# EAGLE library part FX2-68 (library monome)
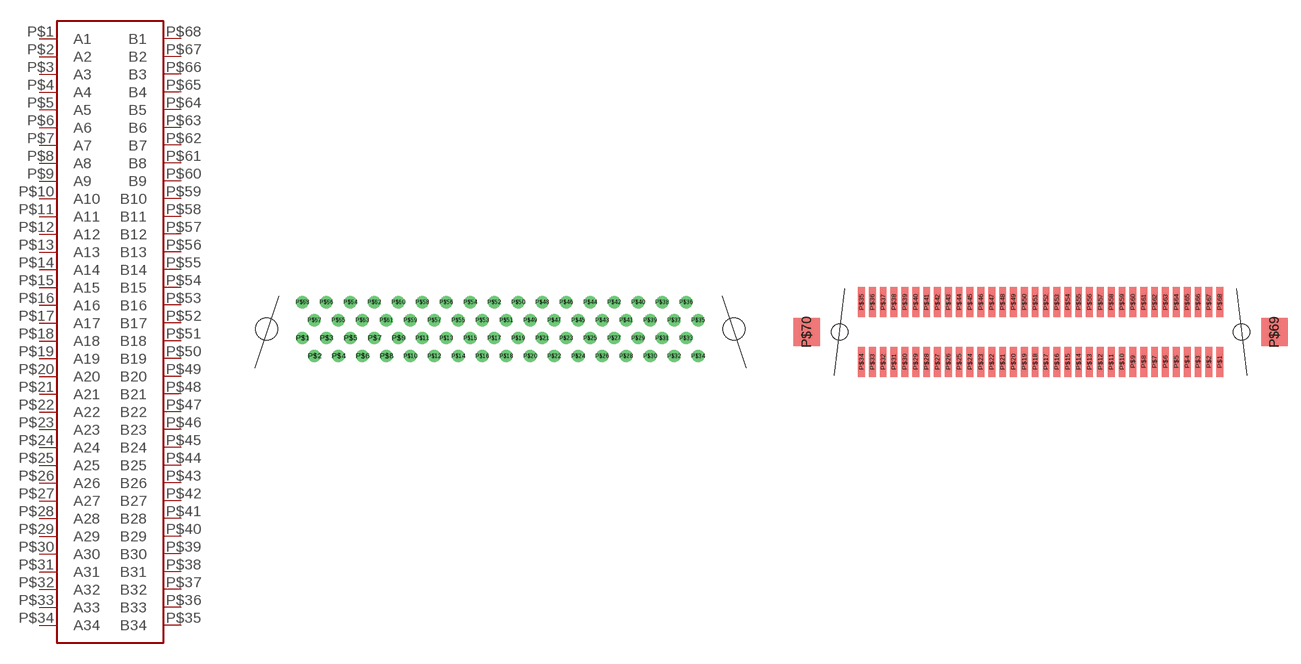
[diagram p10: symbol with the pads of FX2-68-THRU; footprints FX2-68-THRU, FX2-68-SMD]

Designator prefix -

## FX2-68THRU  [FX2-68-THRU]
P$1  A1
P$2  A2
P$3  A3
P$4  A4
P$5  A5
P$6  A6
P$7  A7
P$8  A8
P$9  A9
P$10  A10
P$11  A11
P$12  A12
P$13  A13
P$14  A14
P$15  A15
P$16  A16
P$17  A17
P$18  A18
P$19  A19
P$20  A20
P$21  A21
P$22  A22
P$23  A23
P$24  A24
P$25  A25
P$26  A26
P$27  A27
P$28  A28
P$29  A29
P$30  A30
P$31  A31
P$32  A32
P$33  A33
P$34  A34
P$35  B34
P$36  B33
P$37  B32
P$38  B31
P$39  B30
P$40  B29
P$41  B28
P$42  B27
P$43  B26
P$44  B25
P$45  B24
P$46  B23
P$47  B22
P$48  B21
P$49  B20
P$50  B19
P$51  B18
P$52  B17
P$53  B16
P$54  B15
P$55  B14
P$56  B13
P$57  B12
P$58  B11
P$59  B10
P$60  B9
P$61  B8
P$62  B7
P$63  B6
P$64  B5
P$65  B4
P$66  B3
P$67  B2
P$68  B1

## FX2-68SMD  [FX2-68-SMD]
Pads as for FX2-68-THRU

## Footprint FX2-68-THRU (pad centres in mm)
drill 0.8 round: P$1 0,1.905; P$2 1.27,0; P$3 2.54,1.905; P$4 3.81,0; P$5 5.08,1.905; P$6 6.35,0; P$7 7.62,1.905; P$8 8.89,0; P$9 10.16,1.905; P$10 11.43,0; P$11 12.7,1.905; P$12 13.97,0; P$13 15.24,1.905; P$14 16.51,0; P$15 17.78,1.905; P$16 19.05,0; P$17 20.32,1.905; P$18 21.59,0; P$19 22.86,1.905; P$20 24.13,0; P$21 25.4,1.905; P$22 26.67,0; P$23 27.94,1.905; P$24 29.21,0; P$25 30.48,1.905; P$26 31.75,0; P$27 33.02,1.905; P$28 34.29,0; P$29 35.56,1.905; P$30 36.83,0; P$31 38.1,1.905; P$32 39.37,0; P$33 40.64,1.905; P$34 41.91,0; P$35 41.91,3.81; P$36 40.64,5.715; P$37 39.37,3.81; P$38 38.1,5.715; P$39 36.83,3.81; P$40 35.56,5.715; P$41 34.29,3.81; P$42 33.02,5.715; P$43 31.75,3.81; P$44 30.48,5.715; P$45 29.21,3.81; P$46 27.94,5.715; P$47 26.67,3.81; P$48 25.4,5.715; P$49 24.13,3.81; P$50 22.86,5.715; P$51 21.59,3.81; P$52 20.32,5.715; P$53 19.05,3.81; P$54 17.78,5.715; P$55 16.51,3.81; P$56 15.24,5.715; P$57 13.97,3.81; P$58 12.7,5.715; P$59 11.43,3.81; P$60 10.16,5.715; P$61 8.89,3.81; P$62 7.62,5.715; P$63 6.35,3.81; P$64 5.08,5.715; P$65 3.81,3.81; P$66 2.54,5.715; P$67 1.27,3.81; P$68 0,5.715
hole 2.3 at -3.81,2.857
hole 2.3 at 45.72,2.857

## Footprint FX2-68-SMD (pad centres in mm)
smd 0.8 x 3.5: P$1 41.91,-2.54; P$2 40.64,-2.54; P$3 39.37,-2.54; P$4 38.1,-2.54; P$5 36.83,-2.54; P$6 35.56,-2.54; P$7 34.29,-2.54; P$8 33.02,-2.54; P$9 31.75,-2.54; P$10 30.48,-2.54; P$11 29.21,-2.54; P$12 27.94,-2.54; P$13 26.67,-2.54; P$14 25.4,-2.54; P$15 24.13,-2.54; P$16 22.86,-2.54; P$17 21.59,-2.54; P$18 20.32,-2.54; P$19 19.05,-2.54; P$20 17.78,-2.54; P$21 16.51,-2.54; P$22 15.24,-2.54; P$23 13.97,-2.54; P$24 12.7,-2.54; P$25 11.43,-2.54; P$26 10.16,-2.54; P$27 8.89,-2.54; P$28 7.62,-2.54; P$29 6.35,-2.54; P$30 5.08,-2.54; P$31 3.81,-2.54; P$32 2.54,-2.54; P$33 1.27,-2.54; P$34 0,-2.54; P$35 0,4.445; P$36 1.27,4.445; P$37 2.54,4.445; P$38 3.81,4.445; P$39 5.08,4.445; P$40 6.35,4.445; P$41 7.62,4.445; P$42 8.89,4.445; P$43 10.16,4.445; P$44 11.43,4.445; P$45 12.7,4.445; P$46 13.97,4.445; P$47 15.24,4.445; P$48 16.51,4.445; P$49 17.78,4.445; P$50 19.05,4.445; P$51 20.32,4.445; P$52 21.59,4.445; P$53 22.86,4.445; P$54 24.13,4.445; P$55 25.4,4.445; P$56 26.67,4.445; P$57 27.94,4.445; P$58 29.21,4.445; P$59 30.48,4.445; P$60 31.75,4.445; P$61 33.02,4.445; P$62 34.29,4.445; P$63 35.56,4.445; P$64 36.83,4.445; P$65 38.1,4.445; P$66 39.37,4.445; P$67 40.64,4.445; P$68 41.91,4.445
smd 3.1 x 3.3: P$69 48.305,0.953; P$70 -6.395,0.953
hole 1.9 at 44.455,0.953
hole 1.9 at -2.545,0.953